# Altium footprint library Control.PcbLib: 2 footprints
Each footprint in its own frame and in the unit in brackets; x right, y up, seen from the top. Pads: shape width x height; smd on the part's side, far side on the other; paste and mask are expansions set on the pad; w line width, h text height; cw(c..) or ccw(c..) is an arc to the next point about the centre after c.
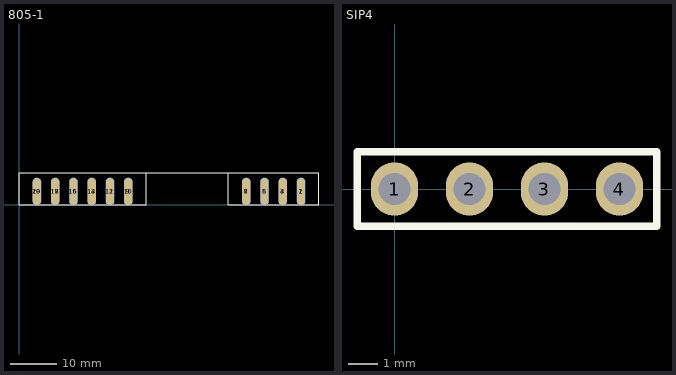
[diagram p0: the footprints below, top view; thin cyan lines are the x and y axes]

## 805-1 [mm]
pads (20):
  oval 1.8x6 smd far side: 1(61.116,2.845) 3(57.156,2.845) 5(53.196,2.845) 7(49.236,2.845) 9(23.675,2.845) 11(19.715,2.845) 13(15.755,2.845) 15(11.795,2.845) 17(7.835,2.845) 19(3.875,2.845)
  oval 1.8x6 smd: 2(61.116,2.845) 4(57.156,2.845) 6(53.196,2.845) 8(49.236,2.845) 10(23.675,2.845) 12(19.715,2.845) 14(15.755,2.845) 16(11.795,2.845) 18(7.835,2.845) 20(3.875,2.845)
Top Overlay:
  lines w0.254: 27.598,6.985 27.598,0 0,0 0,6.985 45.336,6.985 ; 45.336,6.985 65.001,6.985 65.001,0 45.327,0 45.327,6.976 45.336,6.985

## SIP4 [mm]
pads (4):
  oval 1.6x1.801 hole 1.1: 1(0,0) 2(2.54,0) 3(5.08,0) 4(7.62,0)
Top Overlay:
  lines w0.254: -1.27,-1.27 8.89,-1.27 8.89,1.27 -1.27,1.27 -1.27,-1.27